# EAGLE library part STM32F3-48 (library Bits_library_eagle 9x)
STM32F4, 64 pin package According to STM32F40x datasheet, compatible with STM32F4xx, STM32F2xx. Also compatible with STM32F10x, if VCAP1 and VCAP2 are connected directly to VSS.
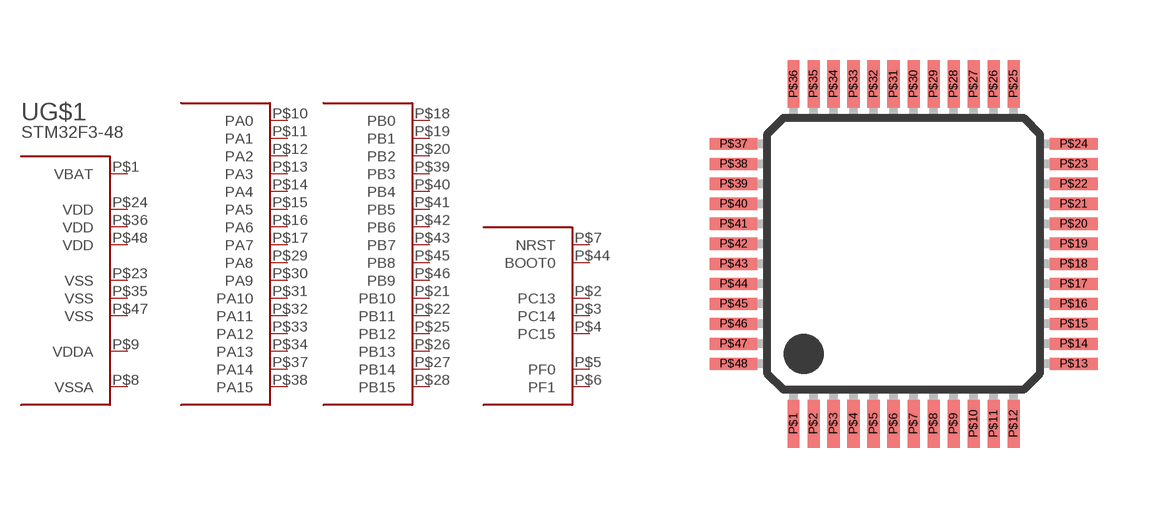
[diagram p87: symbol with the pads of LQFP48; footprint LQFP48]

Designator prefix U; gates G$1=STM32-SUPPLY-48 G$3=STM32-PORTB-48OLD G$4=STM32-MISC-48 G$2=STM32-PORTA-48OLD

## STM32F3-48  [LQFP48]
P$1  G$1:VBAT  pwr
P$2  G$4:PC13
P$3  G$4:PC14
P$4  G$4:PC15
P$5  G$4:PF0
P$6  G$4:PF1
P$7  G$4:NRST
P$8  G$1:VSSA  pwr
P$9  G$1:VDDA  pwr
P$10  G$2:PA0
P$11  G$2:PA1
P$12  G$2:PA2
P$13  G$2:PA3
P$14  G$2:PA4
P$15  G$2:PA5
P$16  G$2:PA6
P$17  G$2:PA7
P$18  G$3:PB0
P$19  G$3:PB1
P$20  G$3:PB2
P$21  G$3:PB10
P$22  G$3:PB11
P$23  G$1:VSS  pwr
P$24  G$1:VDD  pwr
P$25  G$3:PB12
P$26  G$3:PB13
P$27  G$3:PB14
P$28  G$3:PB15
P$29  G$2:PA8
P$30  G$2:PA9
P$31  G$2:PA10
P$32  G$2:PA11
P$33  G$2:PA12
P$34  G$2:PA13
P$35  G$1:VSS  pwr
P$36  G$1:VDD  pwr
P$37  G$2:PA14
P$38  G$2:PA15
P$39  G$3:PB3
P$40  G$3:PB4
P$41  G$3:PB5
P$42  G$3:PB6
P$43  G$3:PB7
P$44  G$4:BOOT0
P$45  G$3:PB8
P$46  G$3:PB9
P$47  G$1:VSS  pwr
P$48  G$1:VDD  pwr

## Footprint LQFP48 (pad centres in mm)
smd 0.3 x 1.2: P$1 -2.75,-4.25; P$2 -2.25,-4.25; P$3 -1.75,-4.25; P$4 -1.25,-4.25; P$5 -0.75,-4.25; P$6 -0.25,-4.25; P$7 0.25,-4.25; P$8 0.75,-4.25; P$9 1.25,-4.25; P$10 1.75,-4.25; P$11 2.25,-4.25; P$12 2.75,-4.25; P$25 2.75,4.25; P$26 2.25,4.25; P$27 1.75,4.25; P$28 1.25,4.25; P$29 0.75,4.25; P$30 0.25,4.25; P$31 -0.25,4.25; P$32 -0.75,4.25; P$33 -1.25,4.25; P$34 -1.75,4.25; P$35 -2.25,4.25; P$36 -2.75,4.25
smd 1.2 x 0.3: P$13 4.25,-2.75; P$14 4.25,-2.25; P$15 4.25,-1.75; P$16 4.25,-1.25; P$17 4.25,-0.75; P$18 4.25,-0.25; P$19 4.25,0.25; P$20 4.25,0.75; P$21 4.25,1.25; P$22 4.25,1.75; P$23 4.25,2.25; P$24 4.25,2.75; P$37 -4.25,2.75; P$38 -4.25,2.25; P$39 -4.25,1.75; P$40 -4.25,1.25; P$41 -4.25,0.75; P$42 -4.25,0.25; P$43 -4.25,-0.25; P$44 -4.25,-0.75; P$45 -4.25,-1.25; P$46 -4.25,-1.75; P$47 -4.25,-2.25; P$48 -4.25,-2.75